# Altium footprint library 25LC128-EEPROM.PcbLib: 1 footprints
Each footprint in its own frame and in the unit in brackets; x right, y up, seen from the top. Pads: shape width x height; smd on the part's side, far side on the other; paste and mask are expansions set on the pad; w line width, h text height; cw(c..) or ccw(c..) is an arc to the next point about the centre after c.
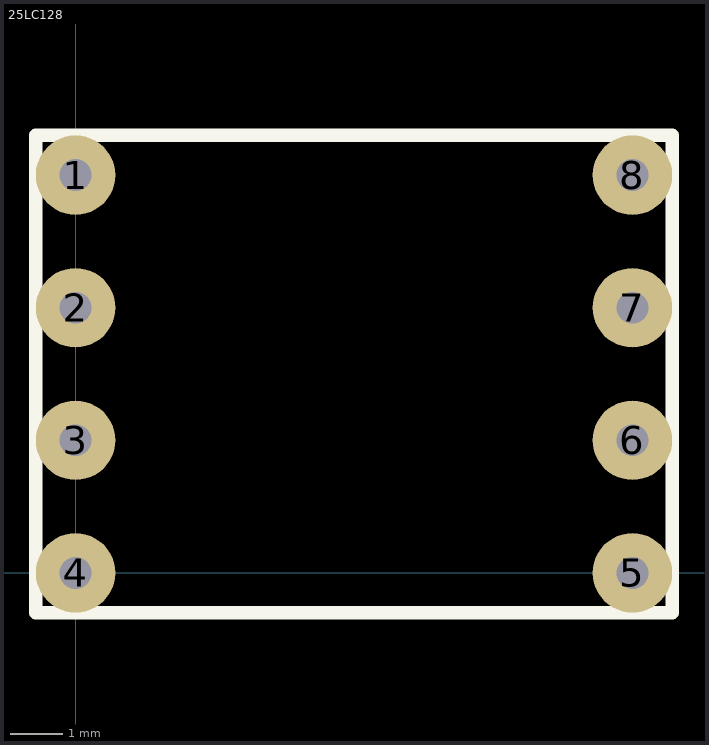
[diagram p0: the footprint, top view; thin cyan lines are the x and y axes]

## 25LC128 [mil]
pads (8):
  round 60 hole 24: 1(0,300) 2(0,200) 3(0,100) 4(0,0) 5(420,0) 6(420,100) 7(420,200) 8(420,300)
Top Overlay:
  lines w10: -30,-30 450,-30 450,330 -30,330 -30,-30